# EAGLE library part MOLEX_0386608808 (library Sparky)
Molex 0386608808 Terminal Block / Barrier Block 8 positions. Screw with captive plate, PC pin 600V @ 45A / 8-18AWG
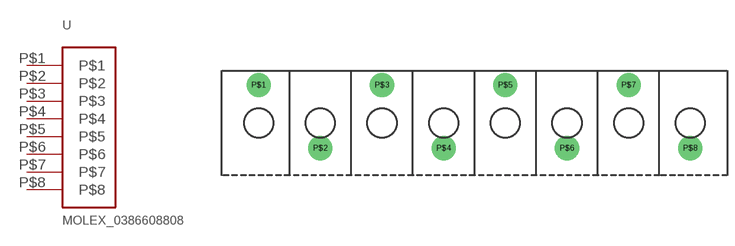
[diagram p23: symbol with the pads of MOLEX_0386608808; footprint MOLEX_0386608808]

Designator prefix -

## MOLEX_0386608808  [MOLEX_0386608808]
P$1  P$1
P$2  P$2
P$3  P$3
P$4  P$4
P$5  P$5
P$6  P$6
P$7  P$7
P$8  P$8

## Footprint MOLEX_0386608808 (pad centres in mm)
drill 3.96: P$1 -44.45,13.03; P$2 -31.75,0; P$3 -19.05,13.03; P$4 -6.35,0; P$5 6.35,13.03; P$6 19.05,0; P$7 31.75,13.03; P$8 44.45,0